# EAGLE library part SMALL_MAVRIC_CONN_RAIL_X6 (library small_mavric)
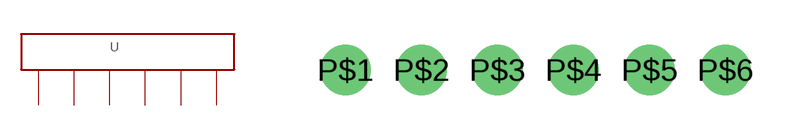
[diagram p9: symbol with the pads of SMALL_MAVRIC_CONN_RAIL_X6; footprint SMALL_MAVRIC_CONN_RAIL_X6]

Designator prefix -

## SMALL_MAVRIC_CONN_RAIL_X6  [SMALL_MAVRIC_CONN_RAIL_X6]
P$1  P$1
P$2  P$2
P$3  P$3
P$4  P$4
P$5  P$5
P$6  P$6

## Footprint SMALL_MAVRIC_CONN_RAIL_X6 (pad centres in mm)
drill 0.9 pad 1.676: P$1 -6.35,0; P$2 -3.81,0; P$3 -1.27,0; P$4 1.27,0; P$5 3.81,0; P$6 6.35,0